# Altium schematic symbol library R-CRCW0603100RJNEA.Schlib: 1 symbol
Pins are listed as number, name and electrical type; pins without a type are passive.

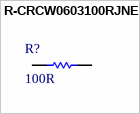
[diagram p0: symbol R-CRCW0603100RJNEA]

## R-CRCW0603100RJNEA
designator R?, comment 100R
Thick Film Resistors - SMD 1/10watt 100ohms 5%
pins: 1, 2